# EAGLE library part 662008231722 (library Wuerth_Elektronik_eiCan_08_Micro_Power_Connectors)
WR-MPC3 3.00mm Male Dual Row SMT Angled Header SMT Fitting Nail Clip, 8 Pins
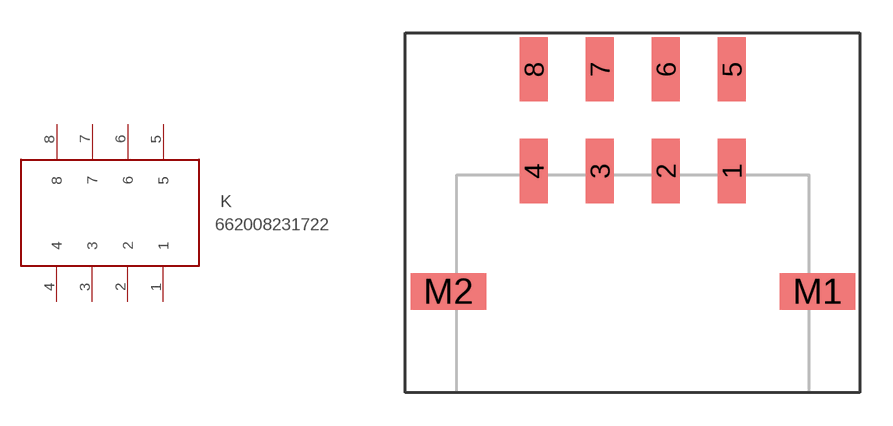
[diagram p61: symbol with the pads of 662008231722; footprint 662008231722]

Designator prefix K

## 662008231722  [662008231722]
1  1
2  2
3  3
4  4
5  5
6  6
7  7
8  8

## Footprint 662008231722 (pad centres in mm)
WR-MPC3 3.00mm Male Dual Row SMT Angled Header SMT Fitting Nail Clip, 8 Pins
smd 1.27 x 2.92: 1 0,-2.31; 2 -3,-2.31; 3 -6,-2.31; 4 -9,-2.31; 5 0,2.31; 6 -3,2.31; 7 -6,2.31; 8 -9,2.31
smd 3.43 x 1.65: M1 3.895,-7.79; M2 -12.895,-7.79